# Altium integrated library Fuse.IntLib: 3 symbols
Pins are listed as number, name and electrical type; pins without a type are passive.

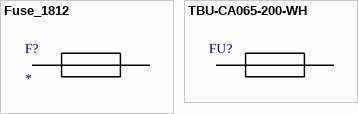
[diagram p0: symbols Fuse_1812 to TBU-CA065-200-WH]

## Fuse_1812
designator F?
footprint 1812
pins: 1, 2

## TBU-CA065-200-WH
designator FU?, comment TBU-CA025-200-WH  (value not drawn)
Rem: *; Package: *; Value: *; Tolerance: *; Power/Voltage: *; TKE: *; ManufacturerPartNumber: TBU-CA025-200-WH; Manufacturer: *; Quantity: *; Примечание: *
footprint TBU_CA_xx
pins: 1, 3

## РЫБА_1
designator FU?, comment ***  (value not drawn)
Rem: *; Package: *; Value: *; Tolerance: *; Power/Voltage: *; TKE: *; ManufacturerPartNumber: *; Manufacturer: *; Quantity: *; Примечание: *